# EAGLE library part PLP-90 (library minicircuits)
Low Pass Filter Source: minicircuits.com .. PLP-90+.pdf
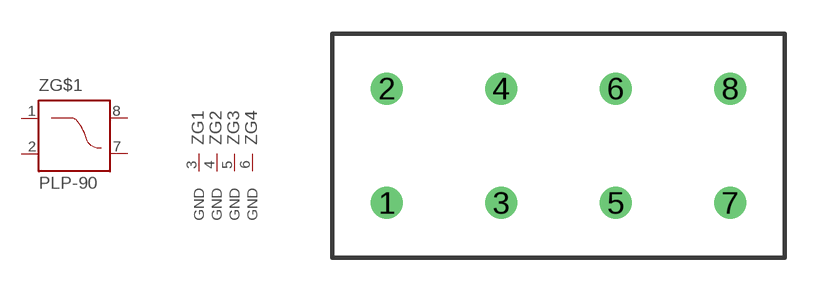
[diagram p5: symbol with the pads of A01; footprint A01]

Designator prefix Z; gates G$1=LOW-PASS G1=GROUND G2=GROUND G3=GROUND G4=GROUND

## PLP-90 (OC_FARNELL: unknown; OC_NEWARK: unknown)  [A01]
1  G$1:IN  in
2  G$1:GND  in
3  G1:GND  pwr
4  G2:GND  pwr
5  G3:GND  pwr
6  G4:GND  pwr
7  G$1:GND  in
8  G$1:OUT  in

## Footprint A01 (pad centres in mm)
CASE STYLE A01 Source: minicircuits.com .. PBP-10.7+.pdf
drill 0.9 pad 1.422: 1 -7.62,-2.54; 2 -7.62,2.54; 3 -2.54,-2.54; 4 -2.54,2.54; 5 2.54,-2.54; 6 2.54,2.54; 7 7.62,-2.54; 8 7.62,2.54